# Altium footprint library 2020-10-24_18-39-10.PcbLib: 3 footprints
Each footprint in its own frame and in the unit in brackets; x right, y up, seen from the top. Pads: shape width x height; smd on the part's side, far side on the other; paste and mask are expansions set on the pad; w line width, h text height; cw(c..) or ccw(c..) is an arc to the next point about the centre after c.
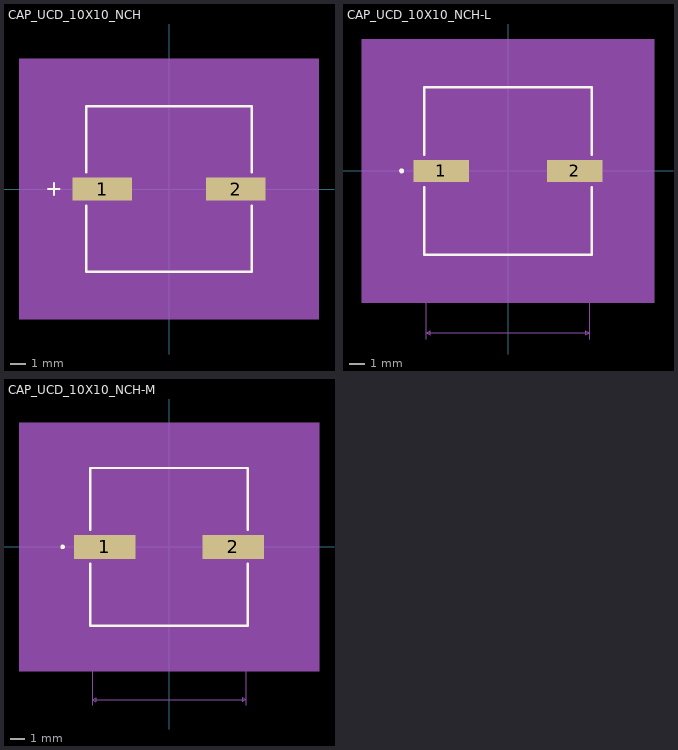
[diagram p0: the footprints below, top view; thin cyan lines are the x and y axes]

## CAP_UCD_10X10_NCH [mil]
pads (2):
  rect 150x59 smd paste+0 mask+0: 1(-167.5,0) 2(167.5,0)
Top Overlay:
  lines w5: -305,0 -275,0 ; -290,-15 -290,15
  lines w6: -208,-42.6 -208,-208 208,-208 208,-42.6 ; -208,42.6 -208,208 208,208 208,42.6
Mechanical 5:
  region: 377.5,-328 -377.5,-328 -377.5,328 377.5,328
Mechanical 13:
  lines w1: -203,-101.5 -101.5,-203 ; -203,101.5 -101.5,203 ; -203,-203 -203,203 203,203 203,-203 -203,-203
Mechanical 15:
  region: -213,-39.5 -252.5,-39.5 -252.5,39.5 -213,39.5 -213,213 213,213 213,39.5 252.5,39.5 252.5,-39.5 213,-39.5 213,-213 -213,-213
  lines w6: -252.5,-39.5 -213,-39.5 -213,-213 213,-213 213,-39.5 252.5,-39.5 252.5,39.5 213,39.5 213,213 -213,213 -213,39.5 -252.5,39.5 -252.5,-39.5
3D body: height 10, standoff 0, extent 0,0 10,10

## CAP_UCD_10X10_NCH-L [mil]
pads (2):
  rect 138x55 smd paste+0 mask+0: 1(-165.5,0) 2(165.5,0)
Top Overlay:
  circle w6: c-264.5,0 r3
  lines w6: -208,-40.6 -208,-208 208,-208 208,-40.6 ; -208,40.6 -208,208 208,208 208,40.6
Mechanical 5:
  region: 363.5,-328 -363.5,-328 -363.5,328 363.5,328
Mechanical 7:
  lines w1: -318,-203 -203,-203 -203,-418 ; -318,203 -203,203 ; -272.5,-303 -222.5,-303 ; -222.5,-318 -222.5,-37.5 ; -222.5,37.5 -222.5,318 ; -88.5,-318 -88.5,-17.5 ; -38.5,-303 -88.5,-303 ; 203,-418 203,-203 ; 222.5,37.5 222.5,318 ; 244.5,-21.5 349.5,-21.5 ; 244.5,21.5 349.5,21.5 ; 334.5,-71.5 334.5,-21.5 ; 334.5,71.5 334.5,21.5 ; -303,-203 -303,203 ; -303,-203 -308,-193 -298,-193 -303,-203 ; -303,203 -308,193 -298,193 -303,203 ; -222.5,-303 -232.5,-298 -232.5,-308 -222.5,-303 ; -222.5,303 222.5,303 ; -222.5,303 -212.5,308 -212.5,298 -222.5,303 ; -203,-403 203,-403 ; -203,-403 -193,-398 -193,-408 -203,-403 ; -88.5,-303 -78.5,-298 -78.5,-308 -88.5,-303 ; 203,-403 193,-398 193,-408 203,-403 ; 222.5,303 212.5,308 212.5,298 222.5,303 ; 334.5,-21.5 329.5,-31.5 339.5,-31.5 334.5,-21.5 ; 334.5,21.5 329.5,31.5 339.5,31.5 334.5,21.5
  text "Default Padstyle: RX138Y55D0T" at -362.5,-447.5 h50
  text "Alternate 1 Padstyle: OX60Y90D30P" at -412.5,-547.5 h50
  text "Alternate 2 Padstyle: OX90Y60D30P" at -412.5,-647.5 h50
  text "0.043in/1.092mm" at 354.5,-12.5 h25
  text "0.445in/11.303mm" at -100,323 h25
  text "0.406in/10.312mm" at -523,-12.5 h25
  text "0.134in/3.404mm" at -249.25,-348 h25
  text "0.406in/10.312mm" at -100,-448 h25
Mechanical 13:
  circle w0: c-183,0 r3
  lines w1: -203,-101.5 -101.5,-203 ; -203,101.5 -101.5,203 ; -203,-203 203,-203 203,203 -203,203 -203,-203
Mechanical 15:
  region: -207,-31.5 -238.5,-31.5 -238.5,31.5 -207,31.5 -207,207 207,207 207,31.5 238.5,31.5 238.5,-31.5 207,-31.5 207,-207 -207,-207
  lines w6: -238.5,-31.5 -238.5,31.5 -207,31.5 -207,207 207,207 207,31.5 238.5,31.5 238.5,-31.5 207,-31.5 207,-207 -207,-207 -207,-31.5 -238.5,-31.5
3D body: height 10, standoff 0, extent 0,0 10,10

## CAP_UCD_10X10_NCH-M [mil]
pads (2):
  rect 162x63 smd paste+0 mask+0: 1(-169.5,0) 2(169.5,0)
Top Overlay:
  circle w6: c-280.5,0 r3
  lines w6: -208,-44.6 -208,-208 208,-208 208,-44.6 ; -208,44.6 -208,208 208,208 208,44.6
Mechanical 5:
  region: 395.5,-328 -395.5,-328 -395.5,328 395.5,328
Mechanical 7:
  lines w1: -318,-203 -203,-203 -203,-418 ; -318,203 -203,203 ; -272.5,-303 -222.5,-303 ; -222.5,-318 -222.5,-41.5 ; -222.5,41.5 -222.5,318 ; -88.5,-318 -88.5,-21.5 ; -38.5,-303 -88.5,-303 ; 203,-418 203,-203 ; 222.5,41.5 222.5,318 ; 260.5,-21.5 365.5,-21.5 ; 260.5,21.5 365.5,21.5 ; 350.5,-71.5 350.5,-21.5 ; 350.5,71.5 350.5,21.5 ; -303,-203 -303,203 ; -303,-203 -308,-193 -298,-193 -303,-203 ; -303,203 -308,193 -298,193 -303,203 ; -222.5,-303 -232.5,-298 -232.5,-308 -222.5,-303 ; -222.5,303 222.5,303 ; -222.5,303 -212.5,308 -212.5,298 -222.5,303 ; -203,-403 203,-403 ; -203,-403 -193,-398 -193,-408 -203,-403 ; -88.5,-303 -78.5,-298 -78.5,-308 -88.5,-303 ; 203,-403 193,-398 193,-408 203,-403 ; 222.5,303 212.5,308 212.5,298 222.5,303 ; 350.5,-21.5 345.5,-31.5 355.5,-31.5 350.5,-21.5 ; 350.5,21.5 345.5,31.5 355.5,31.5 350.5,21.5
  text "Default Padstyle: RX162Y63D0T" at -362.5,-443.5 h50
  text "Alternate 1 Padstyle: OX60Y90D30P" at -412.5,-543.5 h50
  text "Alternate 2 Padstyle: OX90Y60D30P" at -412.5,-643.5 h50
  text "0.043in/1.092mm" at 370.5,-12.5 h25
  text "0.445in/11.303mm" at -100,323 h25
  text "0.406in/10.312mm" at -523,-12.5 h25
  text "0.134in/3.404mm" at -249.25,-348 h25
  text "0.406in/10.312mm" at -100,-448 h25
Mechanical 13:
  circle w0: c-183,0 r3
  lines w1: -203,-101.5 -101.5,-203 ; -203,101.5 -101.5,203 ; -203,-203 203,-203 203,203 -203,203 -203,-203
Mechanical 15:
  region: -223,-51.5 -270.5,-51.5 -270.5,51.5 -223,51.5 -223,223 223,223 223,51.5 270.5,51.5 270.5,-51.5 223,-51.5 223,-223 -223,-223
  lines w6: -270.5,-51.5 -270.5,51.5 -223,51.5 -223,223 223,223 223,51.5 270.5,51.5 270.5,-51.5 223,-51.5 223,-223 -223,-223 -223,-51.5 -270.5,-51.5
3D body: height 10, standoff 0, extent 0,0 10,10